# EAGLE library part MCP6S21-I/MS (library jonsowman)
IC, Single-Ended, Rail-to-Rail I/O, Low Gain PGA,One chennel,MSOP-8
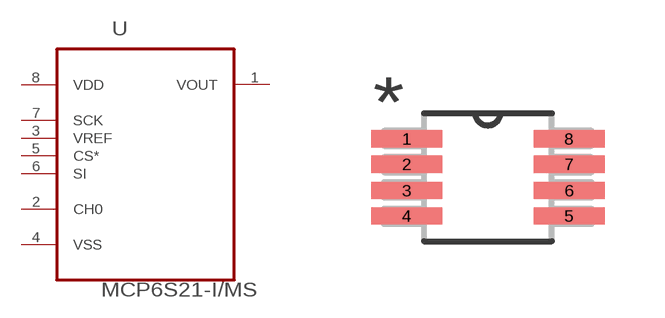
[diagram p12: symbol with the pads of SOP65P490X110-8N; footprint SOP65P490X110-8N]

Designator prefix U

## MCP6S21-I/MS (MPN: MCP6S21-I/MS; OC_FARNELL: 1852157; OC_NEWARK: 29H7141; PACKAGE: SOIC-8; SUPPLIER: Microchip)  [SOP65P490X110-8N]
1  VOUT  out
2  CH0  in
3  VREF  in
4  VSS  pwr
5  CS*  in
6  SI  in
7  SCK  in
8  VDD  pwr

## Footprint SOP65P490X110-8N (pad centres in mm)
smd 1.778 x 0.432: 1 -2.032,0.965; 2 -2.032,0.33; 3 -2.032,-0.33; 4 -2.032,-0.965; 5 2.032,-0.965; 6 2.032,-0.33; 7 2.032,0.33; 8 2.032,0.965